# Altium footprint library so.PcbLib: 21 footprints (part 1 of 2)
Each footprint in its own frame and in the unit in brackets; x right, y up, seen from the top. Pads: shape width x height; smd on the part's side, far side on the other; paste and mask are expansions set on the pad; w line width, h text height; cw(c..) or ccw(c..) is an arc to the next point about the centre after c.
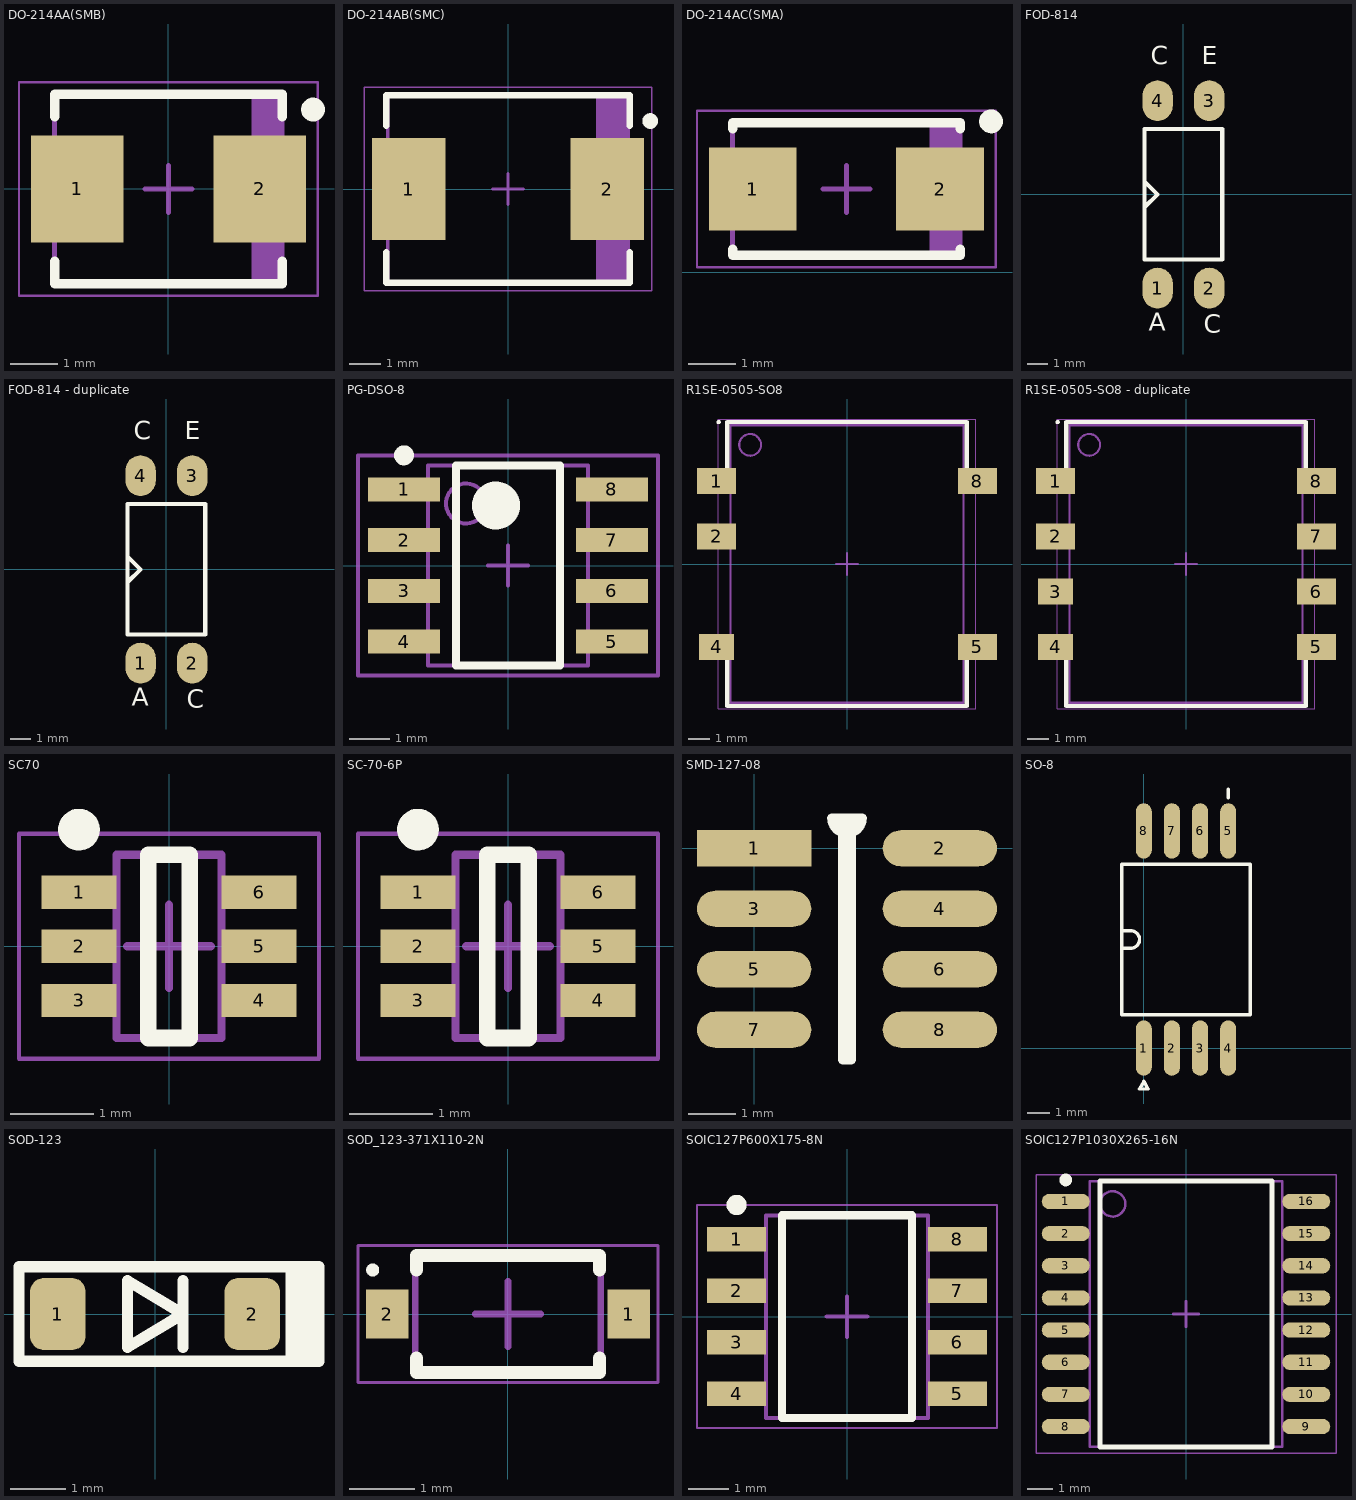
[diagram p0: the footprints below, top view; thin cyan lines are the x and y axes]

## DO-214AA(SMB) [mm] "Molded Diode, 2-Leads, Body 4.60x3.70mm, IPC Medium Density"
height 2.2
pads (2):
  rect 1.95x2.25 smd: 1(-1.925,0) 2(1.925,0)
Top Overlay:
  circle w0.25: c3.05,1.675 r0.125
  lines w0.2: -2.4,-1.525 -2.4,-2 2.4,-2 2.4,-1.525 ; -2.4,1.525 -2.4,2 2.4,2 2.4,1.525
Mechanical 13:
  rectangle: 1.754,-2 2.4,2
  lines w0.1: -2.4,-2 2.4,-2 2.4,2 -2.4,2 -2.4,-2
Mechanical 15:
  lines w0.05: -3.15,-2.25 3.15,-2.25 3.15,2.25 -3.15,2.25 -3.15,-2.25
  lines w0.1: -0.5,0 0.5,0 ; 0,-0.5 0,0.5
3D body "DO-214AA.stp": height 2.65, standoff 0, extent -2.675,-1.975 2.925,1.975

## DO-214AB(SMC) [mm] "Molded Diode, 2-Leads, Body 7.20x5.80mm, IPC Medium Density"
height 2.2
pads (2):
  rect 2.35x3.25 smd: 1(-3.175,0) 2(3.175,0)
Top Overlay:
  circle w0.25: c4.55,2.175 r0.125
  lines w0.2: -3.9,-2.025 -3.9,-3 3.9,-3 3.9,-2.025 ; -3.9,2.025 -3.9,3 3.9,3 3.9,2.025
Mechanical 13:
  rectangle: 2.814,-3 3.85,3
  lines w0.1: -3.85,-3 -3.85,3 3.85,3 3.85,-3 -3.85,-3
Mechanical 15:
  lines w0.05: -4.6,-3.25 -4.6,3.25 4.6,3.25 4.6,-3.25 -4.6,-3.25
  lines w0.1: -0.5,0 0.5,0 ; 0,-0.5 0,0.5
3D body "DO-214AB.stp": height 2.65, standoff 0, extent -4,-3.2 4.15,3.05

## DO-214AC(SMA) [mm] "Molded Diode, 2-Leads, Body 4.60x2.70mm, IPC Medium Density"
height 2.1
pads (2):
  rect 1.85x1.75 smd: 1(-5.925,1.75) 2(-1.975,1.75)
Top Overlay:
  circle w0.25: c-0.9,3.175 r0.125
  lines w0.2: -6.35,0.475 -6.35,0.35 -1.55,0.35 -1.55,0.475 ; -6.35,3.025 -6.35,3.15 -1.55,3.15 -1.55,3.025
Mechanical 13:
  rectangle: -2.196,0.35 -1.55,3.15
  lines w0.1: -6.35,0.35 -1.55,0.35 -1.55,3.15 -6.35,3.15 -6.35,0.35
Mechanical 15:
  lines w0.05: -7.1,0.1 -0.8,0.1 -0.8,3.4 -7.1,3.4 -7.1,0.1
  lines w0.1: -4.45,1.75 -3.45,1.75 ; -3.95,1.25 -3.95,2.25
3D body "DO-214AC-DIOM5127X23N.stp": height 2.3, standoff 0, extent -6.575,0.35 -1.275,3.15

## FOD-814 [mm] "Phototransistor Optocouplers"
height 3.85
pads (4):
  oval 1.5x2 smd: 1(-1.27,-4.6) 2(1.27,-4.6) 3(1.27,4.6) 4(-1.27,4.6)
Top Overlay:
  lines w0.203: -1.905,-0.635 -1.27,0 -1.905,0.635 ; -1.905,-3.2 -1.905,3.2 1.905,3.2 1.905,-3.2 -1.905,-3.2
  text "C" at -1.6,6.1 h1.52
  text "E" at 0.9,6.1 h1.52
  text "C" at 1,-7.1 h1.52
  text "A" at -1.7,-7 h1.52
3D body "TLP521-2.STEP": height 3.72, standoff -0.03, extent -2.29,-4.188 2.29,4.389

## FOD-814 - duplicate [mm] "Phototransistor Optocouplers"
height 3.85
pads (4):
  oval 1.5x2 smd: 1(-1.27,-4.6) 2(1.27,-4.6) 3(1.27,4.6) 4(-1.27,4.6)
Top Overlay:
  lines w0.203: -1.905,-0.635 -1.27,0 -1.905,0.635 ; -1.905,-3.2 1.905,-3.2 1.905,3.2 -1.905,3.2 -1.905,-3.2
  text "A" at -1.7,-7 h1.52
  text "C" at 1,-7.1 h1.52
  text "E" at 0.9,6.1 h1.52
  text "C" at -1.6,6.1 h1.52
3D body "TLP521-2.STEP": height 3.72, standoff -0.03, extent -2.29,-4.188 2.29,4.389

## PG-DSO-8 [mm] "SOP, 8-Leads, Body 5,0x4,0mm (max), Pitch 1,27mm, IPC Medium Density"
height 1.75
pads (8):
  rect 1.8x0.6 smd mask+0: 1(-2.6,1.905) 2(-2.6,0.635) 3(-2.6,-0.635) 4(-2.6,-1.905) 5(2.6,-1.905) 6(2.6,-0.635) 7(2.6,0.635) 8(2.6,1.905)
Top Overlay:
  circle w0.25: c-2.6,2.755 r0.125
  circle w0.6: c-0.3,1.5 r0.3
  lines w0.2: -1.3,-2.5 -1.3,2.5 1.3,2.5 1.3,-2.5 -1.3,-2.5
Mechanical 13:
  circle w0.1: c-1.05,1.55 r0.5
  lines w0.1: -2,-2.5 -2,2.5 2,2.5 2,-2.5 -2,-2.5
Mechanical 15:
  lines w0.1: -0.5,0 0.5,0 ; 0,-0.5 0,0.5 ; -3.75,-2.75 -3.75,2.75 3.75,2.75 3.75,-2.75 -3.75,-2.75
  text ".DESIGNATOR" at -3.429,-2.413 h1
3D body: height 1.75, standoff 0.17, extent -2,-2.5 2,2.5

## R1SE-0505-SO8 [mm] "SO, 8-Leads, Body 12.75x10.70mm, Pitch 2.54mm, IPC Medium Density"
height 7
pads (5):
  rect 1.8x1.2 smd: 1(-6,3.81) 2(-6,1.27) 5(6,-3.81) 8(6,3.81)
  rect 1.6x1.2 smd: 4(-6,-3.81)
Top Overlay:
  circle w0.1: c-5.905,6.53 r0.05
  lines w0.2: -5.505,-4.435 -5.505,-6.53 5.505,-6.53 5.505,-4.435 ; -5.505,4.435 -5.505,6.53 5.505,6.53 5.505,4.435
Mechanical 13:
  circle w0.1: c-4.455,5.48 r0.5
  lines w0.1: -5.355,-6.38 5.355,-6.38 5.355,6.38 -5.355,6.38 -5.355,-6.38
Mechanical 15:
  lines w0.05: -5.93,-6.65 5.93,-6.65 5.93,6.65 -5.93,6.65 -5.93,-6.65
  lines w0.1: -0.5,0 0.5,0 ; 0,-0.5 0,0.5
3D body "R1SE-0505.stp": height 7.01, standoff 0, extent -5.55,-6.375 5.55,6.375

## R1SE-0505-SO8 - duplicate [mm] "SO, 8-Leads, Body 12.75x10.70mm, Pitch 2.54mm, IPC Medium Density"
height 7
pads (8):
  rect 1.8x1.2 smd: 1(-6,3.81) 2(-6,1.27) 5(6,-3.81) 6(6,-1.27) 7(6,1.27) 8(6,3.81)
  rect 1.6x1.2 smd: 3(-6,-1.27) 4(-6,-3.81)
Top Overlay:
  circle w0.1: c-5.905,6.53 r0.05
  lines w0.2: -5.505,-4.435 -5.505,-6.53 5.505,-6.53 5.505,-4.435 ; -5.505,4.435 -5.505,6.53 5.505,6.53 5.505,4.435
Mechanical 13:
  circle w0.1: c-4.455,5.48 r0.5
  lines w0.1: -5.355,-6.38 -5.355,6.38 5.355,6.38 5.355,-6.38 -5.355,-6.38
Mechanical 15:
  lines w0.05: -5.93,-6.65 -5.93,6.65 5.93,6.65 5.93,-6.65 -5.93,-6.65
  lines w0.1: -0.5,0 0.5,0 ; 0,-0.5 0,0.5
3D body "R1SE-0505-SO8.step": height 7, standoff 0.1, extent -5.355,-6.38 5.355,6.38

## SC70 [mm] "SC70, 6-Leads, Body 2.00x2.10mm, Pitch 0.65mm, IPC Medium Density"
height 1.1
pads (6):
  rect 0.9x0.4 smd: 1(-1.08,0.65) 2(-1.08,0) 3(-1.08,-0.65) 4(1.08,-0.65) 5(1.08,0) 6(1.08,0.65)
Top Overlay:
  circle w0.25: c-1.08,1.4 r0.125
  lines w0.2: -0.25,-1.1 -0.25,1.1 0.25,1.1 0.25,-1.1 -0.25,-1.1
Mechanical 13:
  lines w0.1: -0.63,-1.1 0.63,-1.1 0.63,1.1 -0.63,1.1 -0.63,-1.1
Mechanical 15:
  lines w0.05: -1.8,-1.35 1.8,-1.35 1.8,1.35 -1.8,1.35 -1.8,-1.35
  lines w0.1: -0.5,0 0.5,0 ; 0,-0.5 0,0.5
3D body "SC70.step": height 1.1, standoff 0, extent -1.2,-1.1 1.2,1.1

## SC-70-6P [mm] "SC70, 6-Leads, Body 2.00x2.10mm, Pitch 0.65mm, IPC Medium Density"
height 1.1
pads (6):
  rect 0.9x0.4 smd: 1(-1.08,0.65) 2(-1.08,0) 3(-1.08,-0.65) 4(1.08,-0.65) 5(1.08,0) 6(1.08,0.65)
Top Overlay:
  circle w0.25: c-1.08,1.4 r0.125
  lines w0.2: -0.25,-1.1 -0.25,1.1 0.25,1.1 0.25,-1.1 -0.25,-1.1
Mechanical 13:
  lines w0.1: -0.63,-1.1 0.63,-1.1 0.63,1.1 -0.63,1.1 -0.63,-1.1
Mechanical 15:
  lines w0.05: -1.8,-1.35 1.8,-1.35 1.8,1.35 -1.8,1.35 -1.8,-1.35
  lines w0.1: -0.5,0 0.5,0 ; 0,-0.5 0,0.5
3D body "SC70.step": height 1.1, standoff 0, extent -1.2,-1.1 1.2,1.1

## SMD-127-08 [mm]
pads (8):
  rect 2.4x0.76 smd: 1(0,0)
  oval 2.4x0.76 smd: 2(3.9,0) 3(0,-1.27) 4(3.9,-1.27) 5(0,-2.54) 6(3.9,-2.54) 7(0,-3.81) 8(3.9,-3.81)
Top Overlay:
  lines w0.2: 1.632,0.635 ccw(c1.95,0.635) 2.267,0.635 1.865,0.635 1.865,-4.445 2.035,-4.445 2.035,0.635 1.633,0.635

## SO-8 [mm] "picth 1.27mm"
pads (8):
  oval 0.72x2.5 smd: 1(0,0) 2(1.27,0) 3(2.54,0) 4(3.81,0) 5(3.81,9.8) 6(2.54,9.8) 7(1.27,9.8) 8(0,9.8)
Top Overlay:
  lines w0.15: -0.995,4.5 -0.595,4.5 ccw(c-0.595,4.9) -0.595,5.3 -0.995,5.3 ; 3.81,11.29 3.81,11.69 ; -0.995,1.5 -0.995,8.3 4.805,8.3 4.805,1.5 -0.995,1.5 ; -0.2,-1.846 0.2,-1.846 0,-1.5 -0.2,-1.846
3D body "User Library-SSO-8.STEP": height 3.39, standoff 0.01, extent -1.045,-0.85 4.805,10.65

## SOD-123 [mm]
height 5.96
pads (2):
  rrect50% 1x1.3 smd: 1(-1.75,0) 2(1.75,0)
Top Overlay:
  lines w0.2: 0.5,-0.6 0.5,0.6 ; 2.45,-0.85 2.45,0.85 ; 2.55,-0.85 2.55,0.85 ; 2.65,-0.85 2.65,0.85 ; 2.75,-0.85 2.75,0.85 ; 2.85,-0.85 2.85,0.85 ; -2.45,-0.85 2.95,-0.85 2.95,0.85 -2.45,0.85 -2.45,-0.85 ; -0.5,-0.6 0.5,0 -0.5,0.6 -0.5,-0.6
3D body "SOD-123-Yale.STEP": height 1.17, standoff -0.01, extent -1.85,-0.775 1.85,0.775

## SOD_123-371X110-2N [mm] "SODFL, 2-Leads, Body 1.60x3.71mm, IPC Medium Density"
height 1.1
pads (2):
  rect 0.65x0.75 smd: 1(1.85,0) 2(-1.85,0)
Top Overlay:
  circle w0.1: c-2.075,0.675 r0.05
  lines w0.2: -1.4,-0.675 -1.4,-0.9 1.4,-0.9 1.4,-0.675 ; -1.4,0.675 -1.4,0.9 1.4,0.9 1.4,0.675
Mechanical 13:
  lines w0.1: -1.42,-0.9 1.42,-0.9 1.42,0.9 -1.42,0.9 -1.42,-0.9
Mechanical 15:
  lines w0.05: -2.3,-1.05 2.3,-1.05 2.3,1.05 -2.3,1.05 -2.3,-1.05
  lines w0.1: -0.5,0 0.5,0 ; 0,-0.5 0,0.5
3D body "SW3DPS-SOD123-DEFAULT.STEP": height 1.27, standoff 0, extent -1.85,-0.8 1.85,0.8

## SOIC127P600X175-8N [mm] "SOIC, 8-Leads, Body 4.90x3.90mm, Pitch 1.27mm, IPC Medium Density"
height 1.75
pads (8):
  rect 1.45x0.6 smd: 1(-2.725,1.905) 2(-2.725,0.635) 3(-2.725,-0.635) 4(-2.725,-1.905) 5(2.725,-1.905) 6(2.725,-0.635) 7(2.725,0.635) 8(2.725,1.905)
Top Overlay:
  circle w0.25: c-2.725,2.755 r0.125
  lines w0.2: -1.6,-2.5 -1.6,2.5 1.6,2.5 1.6,-2.5 -1.6,-2.5
Mechanical 13:
  lines w0.1: -2,-2.5 -2,2.5 2,2.5 2,-2.5 -2,-2.5
Mechanical 15:
  lines w0.05: -3.7,-2.75 -3.7,2.75 3.7,2.75 3.7,-2.75 -3.7,-2.75
  lines w0.1: -0.5,0 0.5,0 ; 0,-0.5 0,0.5
3D body "SOIC127P600X175-8N.step": height 1.75, standoff 0, extent -3,-2.5 3,2.5

## SOIC127P1030X265-16N [mm] "SOIC, 16-Leads, Body 10.30x7.50mm, Pitch 1.27mm, IPC Medium Density"
height 2.65
pads (16):
  oval 1.9x0.6 smd: 1(-4.75,4.445) 2(-4.75,3.175) 3(-4.75,1.905) 4(-4.75,0.635) 5(-4.75,-0.635) 6(-4.75,-1.905) 7(-4.75,-3.175) 8(-4.75,-4.445) 9(4.75,-4.445) 10(4.75,-3.175) 11(4.75,-1.905) 12(4.75,-0.635) 13(4.75,0.635) 14(4.75,1.905) 15(4.75,3.175) 16(4.75,4.445)
Top Overlay:
  circle w0.25: c-4.75,5.295 r0.125
  lines w0.2: -3.4,-5.25 3.4,-5.25 3.4,5.25 -3.4,5.25 -3.4,-5.25
Mechanical 13:
  circle w0.1: c-2.9,4.35 r0.5
  lines w0.1: -3.8,-5.25 3.8,-5.25 3.8,5.25 -3.8,5.25 -3.8,-5.25
Mechanical 15:
  lines w0.05: -5.925,-5.5 5.925,-5.5 5.925,5.5 -5.925,5.5 -5.925,-5.5
  lines w0.1: -0.5,0 0.5,0 ; 0,-0.5 0,0.5
3D body "SOIC127P1030X265-16N.step": height 2.65, standoff 0, extent -5.15,-5.25 5.15,5.25